# EAGLE library part WEMOS-D1-MINI (library tide_clock)
WeMos.cc D1 mini ESP8266 module
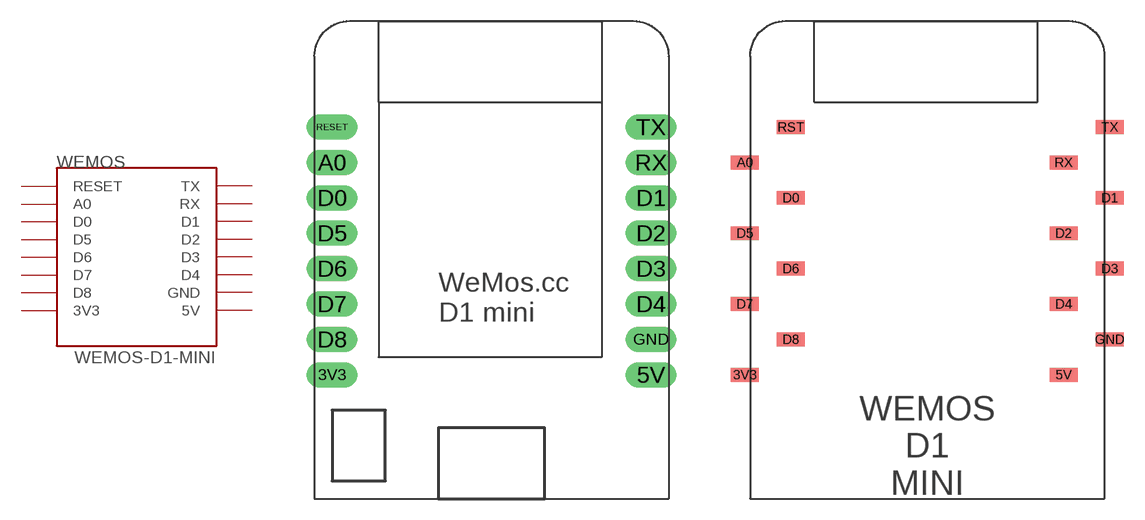
[diagram p4: symbol with the pads of WEMOS-D1-MINI; footprints WEMOS-D1-MINI, WEMOS-D1-MINI-SMD]

Designator prefix WEMOS

## WEMOS-D1-MINI  [WEMOS-D1-MINI]
3V3  3V3
5V  5V
A0  A0
D0  D0
D1  D1
D2  D2
D3  D3
D4  D4
D5  D5
D6  D6
D7  D7
D8  D8
GND  GND
RESET  RESET
RX  RX
TX  TX

## WEMOS-D1-MINISMD  [WEMOS-D1-MINI-SMD]
3V3  3V3
5V  5V
A0  A0
D0  D0
D1  D1
D2  D2
D3  D3
D4  D4
D5  D5
D6  D6
D7  D7
D8  D8
GND  GND
RST  RESET
RX  RX
TX  TX

## Footprint WEMOS-D1-MINI (pad centres in mm)
WeMos.cc D1 mini ESP8266 module
drill 1.016 pad 1.829 long: 3V3 -11.43,-10.16; 5V 11.43,-10.16; A0 -11.43,5.08; D0 -11.43,2.54; D1 11.43,2.54; D2 11.43,0; D3 11.43,-2.54; D4 11.43,-5.08; D5 -11.43,0; D6 -11.43,-2.54; D7 -11.43,-5.08; D8 -11.43,-7.62; GND 11.43,-7.62; RESET -11.43,7.62; RX 11.43,5.08; TX 11.43,7.62

## Footprint WEMOS-D1-MINI-SMD (pad centres in mm)
WeMos.cc D1 mini ESP8266 module
smd 2.007 x 0.991: 3V3 -13.081,-10.16; 5V 9.779,-10.16; A0 -13.081,5.08; D0 -9.779,2.54; D1 13.081,2.54; D2 9.779,0; D3 13.081,-2.54; D4 9.779,-5.08; D5 -13.081,0; D6 -9.779,-2.54; D7 -13.081,-5.08; D8 -9.779,-7.62; GND 13.081,-7.62; RST -9.779,7.62; RX 9.779,5.08; TX 13.081,7.62